# Altium schematic symbol library CAP,Cer,680pF,50VDC,C0G,0402.Schlib: 1 symbol
Pins are listed as number, name and electrical type; pins without a type are passive.

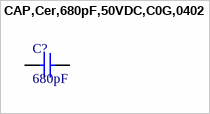
[diagram p0: symbol CAP,Cer,680pF,50VDC,C0G,0402]

## CAP,Cer,680pF,50VDC,C0G,0402
designator C?, comment 680pF
680 pF ±5% 50V Ceramic Capacitor C0G, NP0 0402 (1005 Metric)
pins: 1, 2